# Altium footprint library inductors.PcbLib: 43 footprints (part 3 of 3)
Each footprint in its own frame and in the unit in brackets; x right, y up, seen from the top. Pads: shape width x height; smd on the part's side, far side on the other; paste and mask are expansions set on the pad; w line width, h text height; cw(c..) or ccw(c..) is an arc to the next point about the centre after c.
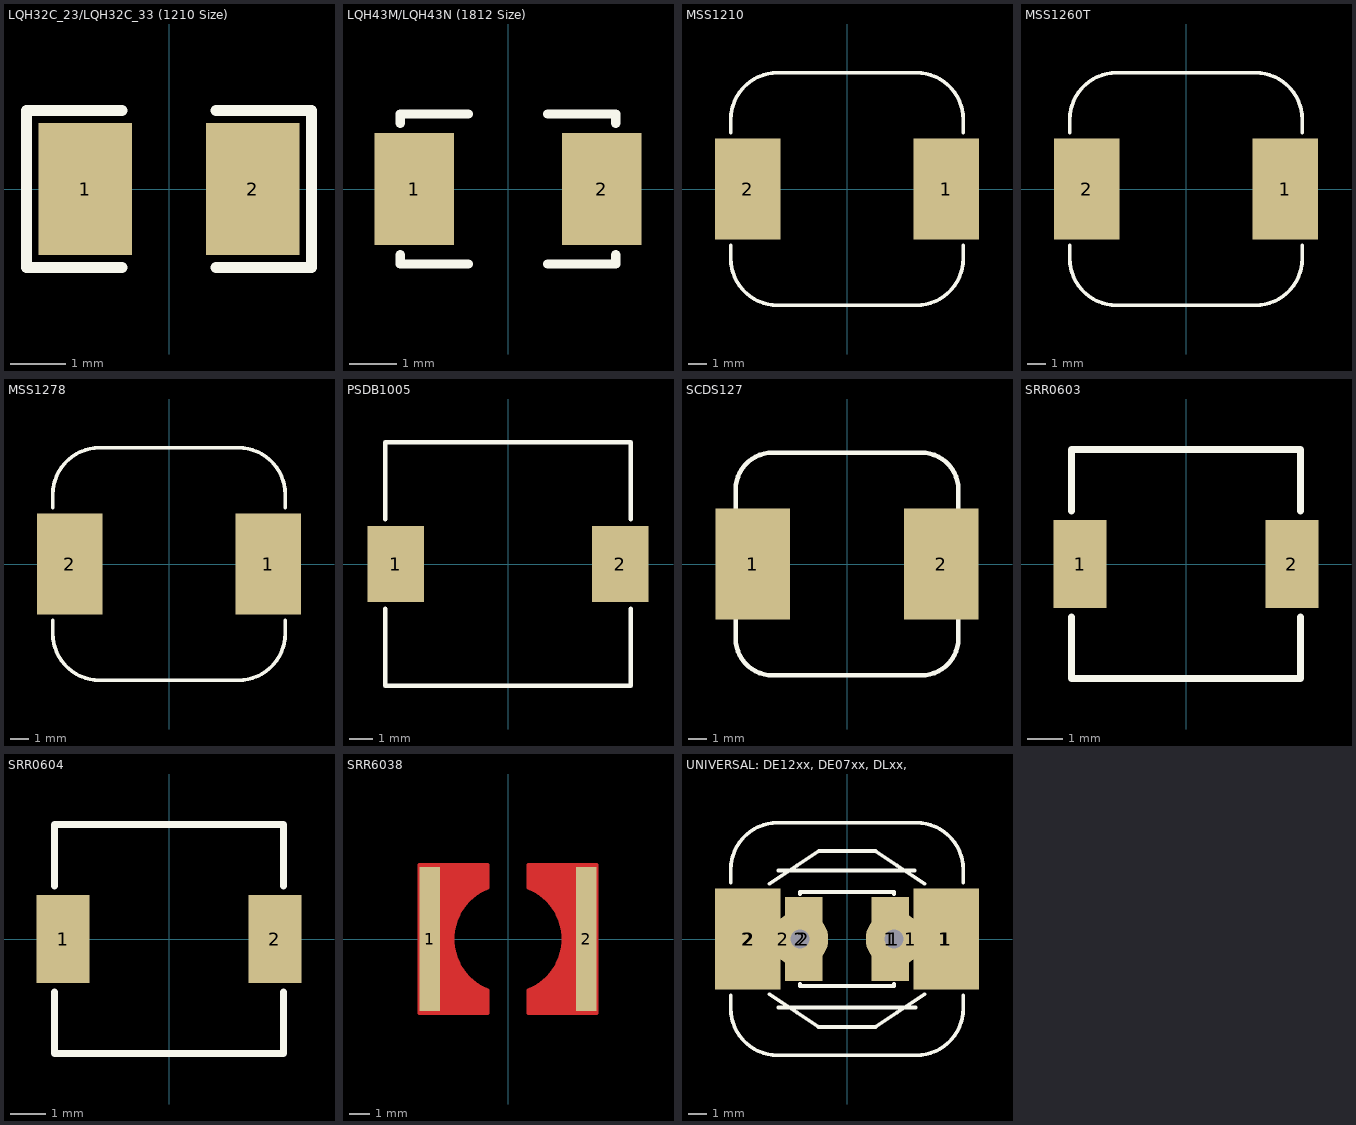
[diagram p2: the footprints below, top view; thin cyan lines are the x and y axes]

## LQH32C_23/LQH32C_33 (1210 Size) [mm] "Murata LQH32C_23 & LQH32C_33 Series Inductor (1210 Size)"
height 2
pads (2):
  rect 1.7x2.4 smd: 1(-1.524,0) 2(1.524,0)
Top Overlay:
  lines w0.2: -0.85,-1.422 -2.591,-1.422 -2.591,1.422 -0.85,1.422 ; 0.85,-1.422 2.591,-1.422 2.591,1.422 0.85,1.422
3D body "User Library-LQH32CN.step": height 2, standoff 0, extent -1.601,-1.355 1.601,1.355

## LQH43M/LQH43N (1812 Size) [mm] "Murata LQH43M/LQH43N Series Inductor (1812 Size)"
height 2.8
pads (2):
  rect 1.7x2.4 smd: 1(-2,0) 2(2,0)
Top Overlay:
  lines w0.2: -2.3,-1.4 -2.3,-1.6 -0.85,-1.6 ; -2.3,1.4 -2.3,1.6 -0.85,1.6 ; 0.85,-1.6 2.3,-1.6 2.3,-1.4 ; 0.85,1.6 2.3,1.6 2.3,1.4
3D body "User Library-lqh4c 1812.STEP": height 2.6, standoff 0, extent -2.3,-1.6 2.3,1.6

## MSS1210 [mm] "12.3mm x 12.3mm x 10.0mm MSS1210 Series Coilcraft Inductor"
height 10
pads (2):
  rect 3.5x5.4 smd: 1(5.3,0) 2(-5.3,0)
Top Overlay:
  lines w0.2: -6.2,-3.7 -6.2,-3 ; -6.2,3 -6.2,3.7 ; -6.199,-3.7 ccw(c-3.7,-3.7) -3.7,-6.199 ; -6.199,3.7 cw(c-3.7,3.7) -3.7,6.199 ; -3.7,-6.2 3.7,-6.2 ; -3.7,6.2 3.7,6.2 ; 3.7,-6.199 ccw(c3.7,-3.7) 6.199,-3.7 ; 3.7,6.199 cw(c3.7,3.7) 6.199,3.7 ; 6.2,-3.7 6.2,-3 ; 6.2,3 6.2,3.7
3D body "Coilcraft-MSS1210.step": height 10.21, standoff 0.01, extent -6.15,-6.15 6.15,6.15

## MSS1260T [mm] "12.3mm x 12.3mm x 6.0mm MSS1260 Series Coilcraft Inductor"
height 6
pads (2):
  rect 3.5x5.4 smd: 1(5.3,0) 2(-5.3,0)
Top Overlay:
  lines w0.2: -6.2,-3.7 -6.2,-3 ; -6.2,3 -6.2,3.7 ; -6.199,-3.7 ccw(c-3.7,-3.7) -3.7,-6.199 ; -6.199,3.7 cw(c-3.7,3.7) -3.7,6.199 ; -3.7,-6.2 3.7,-6.2 ; -3.7,6.2 3.7,6.2 ; 3.7,-6.199 ccw(c3.7,-3.7) 6.199,-3.7 ; 3.7,6.199 cw(c3.7,3.7) 6.199,3.7 ; 6.2,-3.7 6.2,-3 ; 6.2,3 6.2,3.7
3D body "Coilcraft-MSS1260T.step": height 6.2, standoff -0.04, extent -6.15,-6.15 6.15,6.15

## MSS1278 [mm] "12.3mm x 12.3mm x 8.0mm MSS1278 Series Coilcraft Inductor"
height 8
pads (2):
  rect 3.5x5.4 smd: 1(5.3,0) 2(-5.3,0)
Top Overlay:
  lines w0.2: -6.2,-3.7 -6.2,-3 ; -6.2,3 -6.2,3.7 ; -6.199,-3.7 ccw(c-3.7,-3.7) -3.7,-6.199 ; -6.199,3.7 cw(c-3.7,3.7) -3.7,6.199 ; -3.7,-6.2 3.7,-6.2 ; -3.7,6.2 3.7,6.2 ; 3.7,-6.199 ccw(c3.7,-3.7) 6.199,-3.7 ; 3.7,6.199 cw(c3.7,3.7) 6.199,3.7 ; 6.2,-3.7 6.2,-3 ; 6.2,3 6.2,3.7
3D body "Coilcraft-MSS1278.step": height 8.1, standoff 0.01, extent -6.15,-6.15 6.15,6.15

## PSDB1005 [mm] "PSDB Series Shielded SMD Power Inductor"
pads (2):
  rect 2.4x3.2 smd: 1(-4.75,0) 2(4.75,0)
Top Overlay:
  lines w0.2: -5.2,-1.9 -5.2,-5.15 5.2,-5.15 5.2,-1.9 ; -5.2,1.9 -5.2,5.15 5.2,5.15 5.2,1.9
3D body "User Library-IND_MURATA_MBH10145C.STEP": height 4.85, standoff 0.05, extent -5.2,-5.2 5.2,5.2

## SCDS127 [mm] "Inductor SMD 12mm"
height 7.7
pads (2):
  rect 4x6 smd: 1(-5.08,0) 2(5.08,0)
Top Overlay:
  lines w0.254: -6,-4 ccw(c-4,-4) -4,-6 4,-6 ccw(c4,-4) 6,-4 6,4 ccw(c4,4) 4,6 -4,6 ccw(c-4,4) -6,4 -6,-4

## SRR0603 [mm] "Bourns SDM Shielded 6.5 x 3.3 mm"
height 3.3
pads (2):
  rect 1.5x2.5 smd: 1(-3,0) 2(3,0)
Top Overlay:
  lines w0.2: -3.25,-1.5 -3.25,-3.25 3.25,-3.25 3.25,-1.5 ; -3.25,1.5 -3.25,3.25 3.25,3.25 3.25,1.5
3D body "srr0603.STEP": height 3.3, standoff 0, extent -3.25,-3.25 3.25,3.25

## SRR0604 [mm] "Bourns SDM Shielded 6.5 x 4.8mm"
height 4.8
pads (2):
  rect 1.5x2.5 smd: 1(-3,0) 2(3,0)
Top Overlay:
  lines w0.2: -3.25,-1.5 -3.25,-3.25 3.25,-3.25 3.25,-1.5 ; -3.25,1.5 -3.25,3.25 3.25,3.25 3.25,1.5
3D body "srr0604.STEP": height 4.8, standoff 0, extent -3.25,-3.25 3.25,3.25

## SRR6038 [mm] "Bourns SRR6038 Series Shielded SMD Power Inductor"
height 4
pads (2):
  rect 1x7 smd: 1(-3.8,0) 2(3.8,0)
Top Layer:
  region: -4.3,-3.6 -1,-3.6 -1,-2.5 -1.003,-2.507 -1.186,-2.425 -1.533,-2.223 -1.845,-1.971 -2.117,-1.676 -2.342,-1.343 -2.515,-0.981 -2.633,-0.598 -2.693,-0.201 -2.693,0.201 -2.633,0.598 -2.515,0.981 -2.342,1.343 -2.117,1.676 -1.845,1.971 -1.533,2.223 -1.186,2.425 -1.003,2.507 -1,2.5 -1,3.6 -4.3,3.6
  region: 4.3,3.6 1,3.6 1,2.5 1.003,2.507 1.186,2.425 1.533,2.223 1.845,1.971 2.117,1.676 2.342,1.343 2.515,0.981 2.633,0.598 2.693,0.201 2.693,-0.201 2.633,-0.598 2.515,-0.981 2.342,-1.343 2.117,-1.676 1.845,-1.971 1.533,-2.223 1.186,-2.425 1.003,-2.507 1,-2.5 1,-3.6 4.3,-3.6
  lines w0.2: -1.003,-2.507 cw(c0,0) -1.003,2.507 ; -1,-2.5 -1,-3.6 -4.3,-3.6 -4.3,3.6 -1,3.6 -1,2.5 ; 1,-2.5 1,-3.6 4.3,-3.6 4.3,3.6 1,3.6 1,2.5 ; 1.003,-2.507 ccw(c0,0) 1.003,2.507
3D body "User Library-SRR6038.step": height 4.1, standoff 0, extent -3.4,-3.4 3.4,3.4

## UNIVERSAL: DE12xx, DE07xx, DLxx, [mm]
height 6
pads (10):
  rect 2x4.5 smd: 1(2.3,0) 2(-2.3,0)
  round 3 hole 1: 1(2.5,0) 2(-2.5,0)
  rect 2x2.2 smd: 1(3.4,0) 2(-3.4,0)
  rect 3x2.54 smd: 1(5.207,0) 2(-5.207,0)
  rect 3.5x5.4 smd: 1(5.3,0) 2(-5.3,0)
Top Overlay:
  lines w0.2: -6.2,-3.7 -6.2,-3 ; -6.2,3 -6.2,3.7 ; -6.199,-3.7 ccw(c-3.7,-3.7) -3.7,-6.199 ; -6.199,3.7 cw(c-3.7,3.7) -3.7,6.199 ; -4.131,-2.946 -2.67,-3.92 -1.502,-4.699 ; -4.131,2.946 -2.67,3.92 -1.502,4.699 1.524,4.699 ; -3.7,-6.2 3.7,-6.2 ; -3.7,6.2 3.7,6.2 ; -3.65,-3.65 3.65,-3.65 ; -3.65,3.65 3.6,3.65 ; -2.5,-2.4 -2.5,-2.5 2.5,-2.5 2.5,-2.4 ; -2.5,2.4 -2.5,2.5 2.5,2.5 2.5,2.4 ; -1.524,-4.699 1.524,-4.699 ; 1.502,-4.699 2.67,-3.92 4.131,-2.946 ; 1.502,4.699 2.67,3.92 4.131,2.946 ; 3.7,-6.199 ccw(c3.7,-3.7) 6.199,-3.7 ; 3.7,6.199 cw(c3.7,3.7) 6.199,3.7 ; 6.2,-3.7 6.2,-3 ; 6.2,3 6.2,3.7
3D body "Coilcraft-MSS1260T.step": height 6.2, standoff -0.04, extent -6.15,-6.15 6.15,6.15